# Altium integrated library Linear Technology Power Management PMIC Multifunction.IntLib: 360 symbols (part 7 of 42)
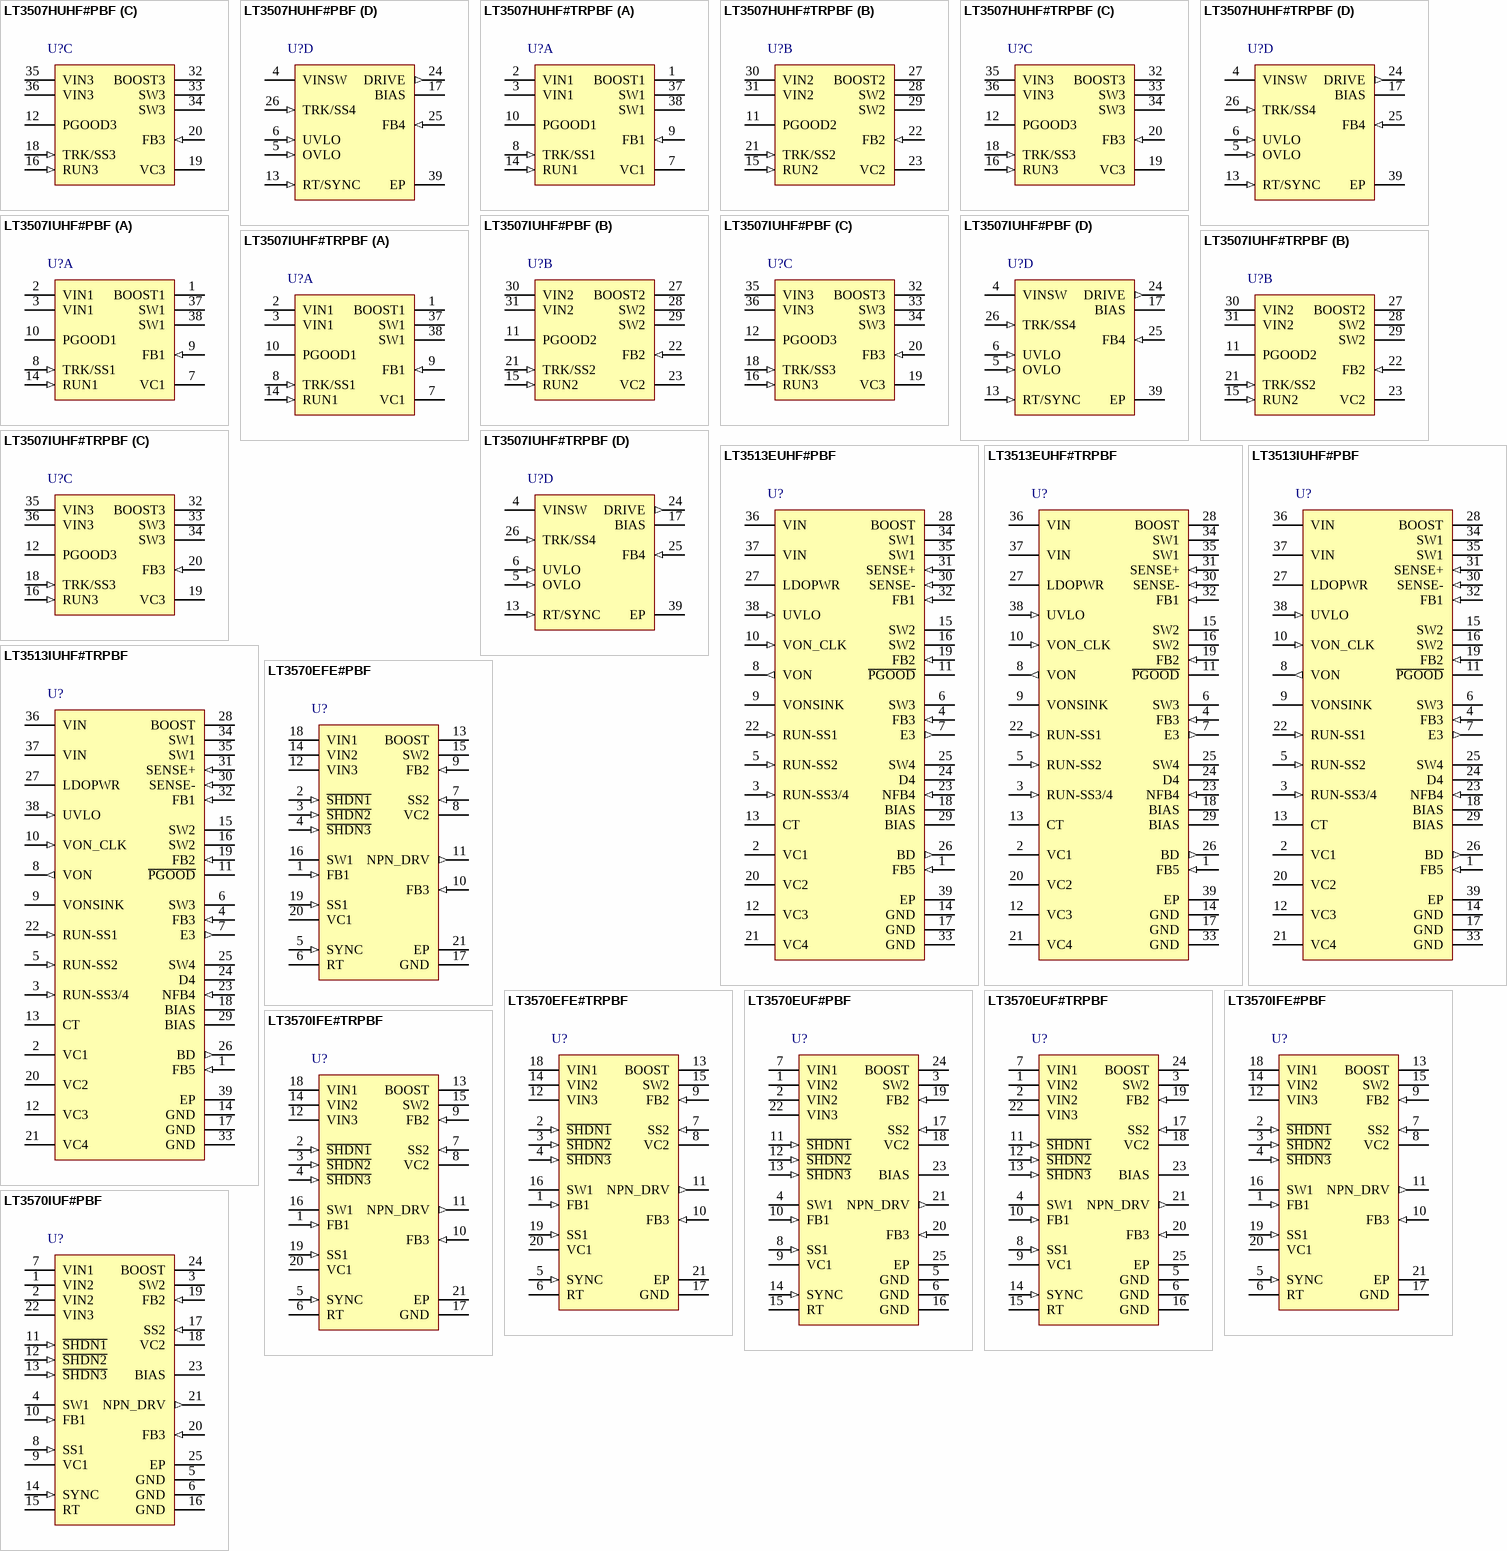
[diagram p24: symbols LT3507HUHF#PBF to LT3570IUF#PBF]

## LT3507IUHF#TRPBF
designator U?
Triple Monolithic Step-Down Regulator with LDO, 4 to 36 V Vin, 38-pin QFN (UHF-38), -40 to 125 degC, Pb-Free, Tape and Reel; Manufacturer: Linear Technology; PartNumber: LT3507IUHF#TRPBF; Number of Outputs: 4; Vin Max(V): 36; DatasheetVersion: Rev. A; PackageVersion: Rev. C, 06/2010; PackageReference: UHF-38; PackageDescription: 38-Pin Plastic QFN, Body 7 x 5 mm, Pitch 0.5 mm; Supplier 1: Digi-Key; Supplier Part Number 1: LT3507IUHF#TRPBF-ND; Supplier 2: Newark; Supplier Part Number 2: 95M8581; Packing: Tape and Reel; RoHS: TRUE; Vin Min(V): 4; Mounting Technology: Surface Mount; Code_JEDEC: MO-220; ComponentLink1Description: Manufacturer URL; ComponentLink1URL: http://www.linear.com/; ComponentLink2Description: Datasheet; ComponentLink2URL: http://cds.linear.com/docs/en/datasheet/3507fa.pdf; ComponentLink3Description: Package Specification; ComponentLink3URL: http://cds.linear.com/docs/en/packaging/QFN_38_05-08-1701.pdf
footprint LT-UHF-38_N (QFN, 38-Leads, Body 7.1x5.1mm, Pitch 0.5mm, Thermal Pad 3.15x5.15mm, IPC Medium Density)
footprint LT-UHF-38_L (QFN, 38-Leads, Body 7.1x5.1mm, Pitch 0.5mm, Thermal Pad 3.15x5.15mm, IPC High Density)
footprint LT-UHF-38_M (QFN, 38-Leads, Body 7.1x5.1mm, Pitch 0.5mm, Thermal Pad 3.15x5.15mm, IPC Low Density)
part A pins: 1 BOOST1 "The BOOST pins are used to provide drive voltages, higher than the input voltage, to the internal bipolar NPN power switches. These pins must be tied through a diode from VOUT, VIN or another supply greater than 2.5V.", 2 VIN1 (power), 3 VIN1 (power), 7 VC1 "The VC pins are the outputs of the internal error amps. The voltages on these pins control the peak switch currents. These pins are normally used to compensate the control loops. Each switching regulator can be shut down by (See Datasheet)", 8 TRK/SS1 (in), 9 FB1 (in), 10 PGOOD1 (hiz) "The PGOOD pins are the open-collector outputs of an internal comparator. PGOOD remains low until the FB pin is within 10% of the final regulation voltage. As well as indicating output regulation, the PGOOD pins can sequence (See Datasheet)", 14 RUN1 (in), 37 SW1 (power) "The SW pins are the outputs of the internal power switches. Connect these pins to the inductors and switching diodes", 38 SW1 (power) "The SW pins are the outputs of the internal power switches. Connect these pins to the inductors and switching diodes"
part B pins: 11 PGOOD2 (hiz) "The PGOOD pins are the open-collector outputs of an internal comparator. PGOOD remains low until the FB pin is within 10% of the final regulation voltage. As well as indicating output regulation, the PGOOD pins can sequence (See Datasheet)", 15 RUN2 (in), 21 TRK/SS2 (in), 22 FB2 (in), 23 VC2 "The VC pins are the outputs of the internal error amps. The voltages on these pins control the peak switch currents. These pins are normally used to compensate the control loops. Each switching regulator can be shut down by (See Datasheet)", 27 BOOST2 "The BOOST pins are used to provide drive voltages, higher than the input voltage, to the internal bipolar NPN power switches. These pins must be tied through a diode from VOUT, VIN or another supply greater than 2.5V.", 28 SW2 (power) "The SW pins are the outputs of the internal power switches. Connect these pins to the inductors and switching diodes", 29 SW2 (power) "The SW pins are the outputs of the internal power switches. Connect these pins to the inductors and switching diodes", 30 VIN2 (power), 31 VIN2 (power)
part C pins: 12 PGOOD3 (hiz) "The PGOOD pins are the open-collector outputs of an internal comparator. PGOOD remains low until the FB pin is within 10% of the final regulation voltage. As well as indicating output regulation, the PGOOD pins can sequence (See Datasheet)", 16 RUN3 (in), 18 TRK/SS3 (in), 19 VC3 "The VC pins are the outputs of the internal error amps. The voltages on these pins control the peak switch currents. These pins are normally used to compensate the control loops. Each switching regulator can be shut down by (See Datasheet)", 20 FB3 (in), 32 BOOST3 "The BOOST pins are used to provide drive voltages, higher than the input voltage, to the internal bipolar NPN power switches. These pins must be tied through a diode from VOUT, VIN or another supply greater than 2.5V.", 33 SW3 (power) "The SW pins are the outputs of the internal power switches. Connect these pins to the inductors and switching diodes", 34 SW3 (power) "The SW pins are the outputs of the internal power switches. Connect these pins to the inductors and switching diodes", 35 VIN3 (power), 36 VIN3 (power)
part D pins: 4 VINSW (power) "The VINSW pin is a switched VIN1 for the user programmable undervoltage and overvoltage detection. It is connected to VIN1 when any of the RUN pins are pulled high, and high impedance when all RUN pins are low or open.", 5 OVLO (in), 6 UVLO (in), 13 RT/SYNC (in), 17 BIAS (power), 24 DRIVE (out) "The DRIVE pin provides the base drive for an external NPN transistor used for the LDO regulator.", 25 FB4 (in) "The FB4 pin is the negative input to the LDO error amplifier. It is regulated to 0.8V through the LDO feedback resistor divider.", 26 TRK/SS4 (in), 39 EP (power) "Ground. The underside exposed pad metal of the package provides both electrical contact to ground and good thermal contact to the printed circuit board. The exposed pad must be soldered to a grounded pad on the circuit board (See Datasheet)"

## LT3513EUHF#PBF
designator U?
2 MHz High Current 5-Output Regulator for TFT-LCD Panels, 4.5 to 30 V Vin, 38-pin QFN (UHF-38), -40 to 125 degC, Pb-Free; Manufacturer: Linear Technology; PartNumber: LT3513EUHF#PBF; Number of Outputs: 5; Vin Max(V): 30; Vin Min(V): 4.5; DatasheetVersion: Rev. C; PackageVersion: Rev. C, 06/2010; PackageReference: UHF-38; PackageDescription: 38-Pin Plastic QFN, Body 7 x 5 mm, Pitch 0.5 mm; Supplier 1: Digi-Key; Supplier Part Number 1: LT3513EUHF#PBF-ND; RoHS: TRUE; Mounting Technology: Surface Mount; Code_JEDEC: MO-220; ComponentLink1Description: Manufacturer URL; ComponentLink1URL: http://www.linear.com/; ComponentLink2Description: Datasheet; ComponentLink2URL: http://cds.linear.com/docs/en/datasheet/3513fc.pdf; ComponentLink3Description: Package Specification; ComponentLink3URL: http://cds.linear.com/docs/en/packaging/QFN_38_05-08-1701.pdf
footprint LT-UHF-38_N (QFN, 38-Leads, Body 7.1x5.1mm, Pitch 0.5mm, Thermal Pad 3.15x5.15mm, IPC Medium Density)
footprint LT-UHF-38_L (QFN, 38-Leads, Body 7.1x5.1mm, Pitch 0.5mm, Thermal Pad 3.15x5.15mm, IPC High Density)
footprint LT-UHF-38_M (QFN, 38-Leads, Body 7.1x5.1mm, Pitch 0.5mm, Thermal Pad 3.15x5.15mm, IPC Low Density)
pins: 1 FB5 (in) "Feedback Pin. Tie the resistor tap to this pin and set the output of the LDO according to VLDO = 0.625 • (1 + R14/R15). Reference designators refer to Figure 1.", 2 VC1 "Control Voltage and Compensation Pin for Internal Error Amplifier. Connect a series RC from this pin to ground to compensate switching regulator 1.", 3 RUN-SS3/4 (in) "Run/Soft-Start Pin. This is the softstart pin for switching regulators 3 and 4. Place a soft-start capacitor here to limit start-up inrush current and output voltage ramp rate. When the BIAS pin reaches 2.25V, a 2uA current (See Datasheet)", 4 FB3 (in) "Feedback Pin. Tie the resistor tap to this pin and set VON according to VON = 1.22V • (1 + R8/R9) - 150mV. Reference designators refer to Figure 1.", 5 RUN-SS2 (in) "Run/Soft-Start Pin. This is the soft-start pin for switching regulator 2. Place a soft-start capacitor here to limit start-up inrush current and output voltage ramp rate. When the BIAS pin reaches 2.25V, a 2uA current source (See Datasheet)", 6 SW3 (power) "Switch Node. The SW3 pin is the collector of the internal NPN bipolar transistor for switching regulator 3. Minimize trace area at this pin to keep EMI down.", 7 E3 (out) "This is switching regulator 3’s output and the emitter of the output disconnect PNP. Tie the output capacitor and resistor divider here.", 8 VON (out) "This is the delayed output for switching regulator 3. VON reaches its programmed voltage after the internal CT timer times out. Protection circuitry ensures VON is disabled if any of the four outputs are more than 10% below (See Datasheet)", 9 VONSINK (hiz) "This is an open-collector output controlled by the VON_CLK pin. When VON_CLK is low, this pin draws no current and when VON_CLK is high, this pin draws current.", 10 VON_CLK (in) "This pin controls the output disconnect device and the open collector of VONSINK. When this pin is low, the VON pin is enabled and the VONSINK pin is a high impedance. When this pin is high, the VON pin is disabled and the (See Datasheet)", 11 ~{PGOOD} (oc) "Power Good Comparator Output. This is the open collector output of the power good comparator and can be used in conjunction with an external P-channel MOSFET to provide output disconnect for AVDD as shown in Figure 2. When (See Datasheet)", 12 VC3 "Control Voltage and Compensation Pin for Internal Error Amplifier. Connect a series RC from this pin to ground to compensate switching regulator 3.", 13 CT "Timing Capacitor Pin. This is the input to the VON timer and programs the time delay from all four feedback pins reaching 1.125V to VON turning on. The CT capacitor value can be set using the equation C = (20uA • tDELAY)/(See Datasheet)", 14 GND (power) "Ground.", 15 SW2 (power) "Switch Node. The SW2 pin is the collector of the internal NPN bipolar transistor for switching regulator 2. Minimize trace area at this pin to keep EMI down.", 16 SW2 (power) "Switch Node. The SW2 pin is the collector of the internal NPN bipolar transistor for switching regulator 2. Minimize trace area at this pin to keep EMI down.", 17 GND (power) "Ground.", 18 BIAS (power) "The BIAS pin is used to improve efficiency when operating at higher input voltages. Connecting this pin to the output of switching regulator 1 forces most of the internal circuitry to draw its operating current from VLOGIC (See Datasheet)", 19 FB2 (in) "Feedback Pin. Tie the resistor divider tap to this pin and set AVDD according to AVDD = 1.22V • (1 + R5/R6). Reference designators refer to Figure 2.", 20 VC2 "Control Voltage and Compensation Pin for Internal Error Amplifier. Connect a series RC from this pin to ground to compensate switching regulator 2.", 21 VC4 "Control Voltage and Compensation Pin for Internal Error Amplifier. Connect a series RC from this pin to ground to compensate switching regulator 4.", 22 RUN-SS1 (in) "Run/Soft-Start Pin. This is the soft-start pin for switching regulator 1. Place a soft-start capacitor here to limit start-up inrush current and output voltage ramp rate. When power is applied to the VIN pin, a 2uA current (See Datasheet)", 23 NFB4 (in) "Negative Feedback Pin. Tie the resistor divider tap to this pin and set VOFF according to VOFF = -1.18 • (1 + R3/R4). Reference designators refer to Figure 2.", 24 D4 "Internal Schottky Diode Pin. This pin is the anode of an internal Schottky diode with the other end connected to ground. This Schottky diode is used in generating the VOFF output.", 25 SW4 (power) "Switch Node. The SW4 pin is the collector of the internal NPN bipolar transistor for switching regulator 4. Minimize trace area at this pin to keep EMI down.", 26 BD (out) "NPN LDO Base Drive. This pin controls the base of the external NPN LDO transistor.", 27 LDOPWR (power) "Input Voltage for LDO Driver. This pin supplies the current for the NPN LDO base. This pin can be connected to VIN. To save power at high VIN voltages, the pin can alternatively be connected to the AVDD supply.", 28 BOOST "The BOOST pin is used to provide a drive voltage higher than VIN to the switch 1 drive circuit. An internal Schottky diode is connected between BIAS and BOOST. A capacitor needs to be connected between BOOST and SW1.", 29 BIAS (power) "The BIAS pin is used to improve efficiency when operating at higher input voltages. Connecting this pin to the output of switching regulator 1 forces most of the internal circuitry to draw its operating current from VLOGIC (See Datasheet)", 30 SENSE- (in) "Negative Current Sense Input. This pin (along with the SENSE+ pin) is used to sense the inductor current for the buck switching regulator.", 31 SENSE+ (in) "Positive Current Sense Input. This pin (along with the SENSE- pin) is used to sense the inductor current for the buck switching regulator.", 32 FB1 (in) "Feedback Pin. Tie the resistor divider tap to this pin and set VLOGIC according to VLOGIC = 1.235V • (1 + R1/R2). Reference designators refer to Figure 2.", 33 GND (power) "Ground.", 34 SW1 "Switch Node. The SW1 pins are the emitter of the internal NPN bipolar power transistor for switching regulator 1. These points must be tied together for proper operation. Connect these pins to the inductor, catch diode and (See Datasheet)", 35 SW1 "Switch Node. The SW1 pins are the emitter of the internal NPN bipolar power transistor for switching regulator 1. These points must be tied together for proper operation. Connect these pins to the inductor, catch diode and (See Datasheet)", 36 VIN (power) "Input Voltage. This pin supplies current to the internal circuitry of the LT3513. This pin must be locally bypassed with a capacitor.", 37 VIN (power) "Input Voltage. This pin supplies current to the internal circuitry of the LT3513. This pin must be locally bypassed with a capacitor.", 38 UVLO (in) "Undervoltage Lockout. A resistor divider connected to VIN is tied to this pin to program the minimum input voltage at which the LT3513 will operate. This pin is compared to the internal 1.25V reference. When UVLO is less (See Datasheet)", 39 EP (power) "Ground. The Exposed Pad of the package provides both electrical contact to ground and good thermal contact to the printed circuit board. The Exposed Pad must be soldered to the circuit board for proper operation."

## LT3513EUHF#TRPBF
designator U?
2 MHz High Current 5-Output Regulator for TFT-LCD Panels, 4.5 to 30 V Vin, 38-pin QFN (UHF-38), -40 to 125 degC, Pb-Free, Tape and Reel; Manufacturer: Linear Technology; PartNumber: LT3513EUHF#TRPBF; Number of Outputs: 5; Vin Max(V): 30; Vin Min(V): 4.5; DatasheetVersion: Rev. C; PackageVersion: Rev. C, 06/2010; PackageReference: UHF-38; PackageDescription: 38-Pin Plastic QFN, Body 7 x 5 mm, Pitch 0.5 mm; Supplier 1: Digi-Key; Supplier Part Number 1: LT3513EUHF#TRPBF-ND; Packing: Tape and Reel; RoHS: TRUE; Mounting Technology: Surface Mount; Code_JEDEC: MO-220; ComponentLink1Description: Manufacturer URL; ComponentLink1URL: http://www.linear.com/; ComponentLink2Description: Datasheet; ComponentLink2URL: http://cds.linear.com/docs/en/datasheet/3513fc.pdf; ComponentLink3Description: Package Specification; ComponentLink3URL: http://cds.linear.com/docs/en/packaging/QFN_38_05-08-1701.pdf
footprint LT-UHF-38_N (QFN, 38-Leads, Body 7.1x5.1mm, Pitch 0.5mm, Thermal Pad 3.15x5.15mm, IPC Medium Density)
footprint LT-UHF-38_L (QFN, 38-Leads, Body 7.1x5.1mm, Pitch 0.5mm, Thermal Pad 3.15x5.15mm, IPC High Density)
footprint LT-UHF-38_M (QFN, 38-Leads, Body 7.1x5.1mm, Pitch 0.5mm, Thermal Pad 3.15x5.15mm, IPC Low Density)
pins: 1 FB5 (in) "Feedback Pin. Tie the resistor tap to this pin and set the output of the LDO according to VLDO = 0.625 • (1 + R14/R15). Reference designators refer to Figure 1.", 2 VC1 "Control Voltage and Compensation Pin for Internal Error Amplifier. Connect a series RC from this pin to ground to compensate switching regulator 1.", 3 RUN-SS3/4 (in) "Run/Soft-Start Pin. This is the softstart pin for switching regulators 3 and 4. Place a soft-start capacitor here to limit start-up inrush current and output voltage ramp rate. When the BIAS pin reaches 2.25V, a 2uA current (See Datasheet)", 4 FB3 (in) "Feedback Pin. Tie the resistor tap to this pin and set VON according to VON = 1.22V • (1 + R8/R9) - 150mV. Reference designators refer to Figure 1.", 5 RUN-SS2 (in) "Run/Soft-Start Pin. This is the soft-start pin for switching regulator 2. Place a soft-start capacitor here to limit start-up inrush current and output voltage ramp rate. When the BIAS pin reaches 2.25V, a 2uA current source (See Datasheet)", 6 SW3 (power) "Switch Node. The SW3 pin is the collector of the internal NPN bipolar transistor for switching regulator 3. Minimize trace area at this pin to keep EMI down.", 7 E3 (out) "This is switching regulator 3’s output and the emitter of the output disconnect PNP. Tie the output capacitor and resistor divider here.", 8 VON (out) "This is the delayed output for switching regulator 3. VON reaches its programmed voltage after the internal CT timer times out. Protection circuitry ensures VON is disabled if any of the four outputs are more than 10% below (See Datasheet)", 9 VONSINK (hiz) "This is an open-collector output controlled by the VON_CLK pin. When VON_CLK is low, this pin draws no current and when VON_CLK is high, this pin draws current.", 10 VON_CLK (in) "This pin controls the output disconnect device and the open collector of VONSINK. When this pin is low, the VON pin is enabled and the VONSINK pin is a high impedance. When this pin is high, the VON pin is disabled and the (See Datasheet)", 11 ~{PGOOD} (oc) "Power Good Comparator Output. This is the open collector output of the power good comparator and can be used in conjunction with an external P-channel MOSFET to provide output disconnect for AVDD as shown in Figure 2. When (See Datasheet)", 12 VC3 "Control Voltage and Compensation Pin for Internal Error Amplifier. Connect a series RC from this pin to ground to compensate switching regulator 3.", 13 CT "Timing Capacitor Pin. This is the input to the VON timer and programs the time delay from all four feedback pins reaching 1.125V to VON turning on. The CT capacitor value can be set using the equation C = (20uA • tDELAY)/(See Datasheet)", 14 GND (power) "Ground.", 15 SW2 (power) "Switch Node. The SW2 pin is the collector of the internal NPN bipolar transistor for switching regulator 2. Minimize trace area at this pin to keep EMI down.", 16 SW2 (power) "Switch Node. The SW2 pin is the collector of the internal NPN bipolar transistor for switching regulator 2. Minimize trace area at this pin to keep EMI down.", 17 GND (power) "Ground.", 18 BIAS (power) "The BIAS pin is used to improve efficiency when operating at higher input voltages. Connecting this pin to the output of switching regulator 1 forces most of the internal circuitry to draw its operating current from VLOGIC (See Datasheet)", 19 FB2 (in) "Feedback Pin. Tie the resistor divider tap to this pin and set AVDD according to AVDD = 1.22V • (1 + R5/R6). Reference designators refer to Figure 2.", 20 VC2 "Control Voltage and Compensation Pin for Internal Error Amplifier. Connect a series RC from this pin to ground to compensate switching regulator 2.", 21 VC4 "Control Voltage and Compensation Pin for Internal Error Amplifier. Connect a series RC from this pin to ground to compensate switching regulator 4.", 22 RUN-SS1 (in) "Run/Soft-Start Pin. This is the soft-start pin for switching regulator 1. Place a soft-start capacitor here to limit start-up inrush current and output voltage ramp rate. When power is applied to the VIN pin, a 2uA current (See Datasheet)", 23 NFB4 (in) "Negative Feedback Pin. Tie the resistor divider tap to this pin and set VOFF according to VOFF = -1.18 • (1 + R3/R4). Reference designators refer to Figure 2.", 24 D4 "Internal Schottky Diode Pin. This pin is the anode of an internal Schottky diode with the other end connected to ground. This Schottky diode is used in generating the VOFF output.", 25 SW4 (power) "Switch Node. The SW4 pin is the collector of the internal NPN bipolar transistor for switching regulator 4. Minimize trace area at this pin to keep EMI down.", 26 BD (out) "NPN LDO Base Drive. This pin controls the base of the external NPN LDO transistor.", 27 LDOPWR (power) "Input Voltage for LDO Driver. This pin supplies the current for the NPN LDO base. This pin can be connected to VIN. To save power at high VIN voltages, the pin can alternatively be connected to the AVDD supply.", 28 BOOST "The BOOST pin is used to provide a drive voltage higher than VIN to the switch 1 drive circuit. An internal Schottky diode is connected between BIAS and BOOST. A capacitor needs to be connected between BOOST and SW1.", 29 BIAS (power) "The BIAS pin is used to improve efficiency when operating at higher input voltages. Connecting this pin to the output of switching regulator 1 forces most of the internal circuitry to draw its operating current from VLOGIC (See Datasheet)", 30 SENSE- (in) "Negative Current Sense Input. This pin (along with the SENSE+ pin) is used to sense the inductor current for the buck switching regulator.", 31 SENSE+ (in) "Positive Current Sense Input. This pin (along with the SENSE- pin) is used to sense the inductor current for the buck switching regulator.", 32 FB1 (in) "Feedback Pin. Tie the resistor divider tap to this pin and set VLOGIC according to VLOGIC = 1.235V • (1 + R1/R2). Reference designators refer to Figure 2.", 33 GND (power) "Ground.", 34 SW1 "Switch Node. The SW1 pins are the emitter of the internal NPN bipolar power transistor for switching regulator 1. These points must be tied together for proper operation. Connect these pins to the inductor, catch diode and (See Datasheet)", 35 SW1 "Switch Node. The SW1 pins are the emitter of the internal NPN bipolar power transistor for switching regulator 1. These points must be tied together for proper operation. Connect these pins to the inductor, catch diode and (See Datasheet)", 36 VIN (power) "Input Voltage. This pin supplies current to the internal circuitry of the LT3513. This pin must be locally bypassed with a capacitor.", 37 VIN (power) "Input Voltage. This pin supplies current to the internal circuitry of the LT3513. This pin must be locally bypassed with a capacitor.", 38 UVLO (in) "Undervoltage Lockout. A resistor divider connected to VIN is tied to this pin to program the minimum input voltage at which the LT3513 will operate. This pin is compared to the internal 1.25V reference. When UVLO is less (See Datasheet)", 39 EP (power) "Ground. The Exposed Pad of the package provides both electrical contact to ground and good thermal contact to the printed circuit board. The Exposed Pad must be soldered to the circuit board for proper operation."

## LT3513IUHF#PBF
designator U?
2 MHz High Current 5-Output Regulator for TFT-LCD Panels, 4.5 to 30 V Vin, 38-pin QFN (UHF-38), -40 to 125 degC, Pb-Free; Manufacturer: Linear Technology; PartNumber: LT3513IUHF#PBF; Number of Outputs: 5; Vin Max(V): 30; Vin Min(V): 4.5; DatasheetVersion: Rev. C; PackageVersion: Rev. C, 06/2010; PackageReference: UHF-38; PackageDescription: 38-Pin Plastic QFN, Body 7 x 5 mm, Pitch 0.5 mm; Supplier 1: Digi-Key; Supplier Part Number 1: LT3513IUHF#PBF-ND; RoHS: TRUE; Mounting Technology: Surface Mount; Code_JEDEC: MO-220; ComponentLink1Description: Manufacturer URL; ComponentLink1URL: http://www.linear.com/; ComponentLink2Description: Datasheet; ComponentLink2URL: http://cds.linear.com/docs/en/datasheet/3513fc.pdf; ComponentLink3Description: Package Specification; ComponentLink3URL: http://cds.linear.com/docs/en/packaging/QFN_38_05-08-1701.pdf
footprint LT-UHF-38_N (QFN, 38-Leads, Body 7.1x5.1mm, Pitch 0.5mm, Thermal Pad 3.15x5.15mm, IPC Medium Density)
footprint LT-UHF-38_L (QFN, 38-Leads, Body 7.1x5.1mm, Pitch 0.5mm, Thermal Pad 3.15x5.15mm, IPC High Density)
footprint LT-UHF-38_M (QFN, 38-Leads, Body 7.1x5.1mm, Pitch 0.5mm, Thermal Pad 3.15x5.15mm, IPC Low Density)
pins: 1 FB5 (in) "Feedback Pin. Tie the resistor tap to this pin and set the output of the LDO according to VLDO = 0.625 • (1 + R14/R15). Reference designators refer to Figure 1.", 2 VC1 "Control Voltage and Compensation Pin for Internal Error Amplifier. Connect a series RC from this pin to ground to compensate switching regulator 1.", 3 RUN-SS3/4 (in) "Run/Soft-Start Pin. This is the softstart pin for switching regulators 3 and 4. Place a soft-start capacitor here to limit start-up inrush current and output voltage ramp rate. When the BIAS pin reaches 2.25V, a 2uA current (See Datasheet)", 4 FB3 (in) "Feedback Pin. Tie the resistor tap to this pin and set VON according to VON = 1.22V • (1 + R8/R9) - 150mV. Reference designators refer to Figure 1.", 5 RUN-SS2 (in) "Run/Soft-Start Pin. This is the soft-start pin for switching regulator 2. Place a soft-start capacitor here to limit start-up inrush current and output voltage ramp rate. When the BIAS pin reaches 2.25V, a 2uA current source (See Datasheet)", 6 SW3 (power) "Switch Node. The SW3 pin is the collector of the internal NPN bipolar transistor for switching regulator 3. Minimize trace area at this pin to keep EMI down.", 7 E3 (out) "This is switching regulator 3’s output and the emitter of the output disconnect PNP. Tie the output capacitor and resistor divider here.", 8 VON (out) "This is the delayed output for switching regulator 3. VON reaches its programmed voltage after the internal CT timer times out. Protection circuitry ensures VON is disabled if any of the four outputs are more than 10% below (See Datasheet)", 9 VONSINK (hiz) "This is an open-collector output controlled by the VON_CLK pin. When VON_CLK is low, this pin draws no current and when VON_CLK is high, this pin draws current.", 10 VON_CLK (in) "This pin controls the output disconnect device and the open collector of VONSINK. When this pin is low, the VON pin is enabled and the VONSINK pin is a high impedance. When this pin is high, the VON pin is disabled and the (See Datasheet)", 11 ~{PGOOD} (oc) "Power Good Comparator Output. This is the open collector output of the power good comparator and can be used in conjunction with an external P-channel MOSFET to provide output disconnect for AVDD as shown in Figure 2. When (See Datasheet)", 12 VC3 "Control Voltage and Compensation Pin for Internal Error Amplifier. Connect a series RC from this pin to ground to compensate switching regulator 3.", 13 CT "Timing Capacitor Pin. This is the input to the VON timer and programs the time delay from all four feedback pins reaching 1.125V to VON turning on. The CT capacitor value can be set using the equation C = (20uA • tDELAY)/(See Datasheet)", 14 GND (power) "Ground.", 15 SW2 (power) "Switch Node. The SW2 pin is the collector of the internal NPN bipolar transistor for switching regulator 2. Minimize trace area at this pin to keep EMI down.", 16 SW2 (power) "Switch Node. The SW2 pin is the collector of the internal NPN bipolar transistor for switching regulator 2. Minimize trace area at this pin to keep EMI down.", 17 GND (power) "Ground.", 18 BIAS (power) "The BIAS pin is used to improve efficiency when operating at higher input voltages. Connecting this pin to the output of switching regulator 1 forces most of the internal circuitry to draw its operating current from VLOGIC (See Datasheet)", 19 FB2 (in) "Feedback Pin. Tie the resistor divider tap to this pin and set AVDD according to AVDD = 1.22V • (1 + R5/R6). Reference designators refer to Figure 2.", 20 VC2 "Control Voltage and Compensation Pin for Internal Error Amplifier. Connect a series RC from this pin to ground to compensate switching regulator 2.", 21 VC4 "Control Voltage and Compensation Pin for Internal Error Amplifier. Connect a series RC from this pin to ground to compensate switching regulator 4.", 22 RUN-SS1 (in) "Run/Soft-Start Pin. This is the soft-start pin for switching regulator 1. Place a soft-start capacitor here to limit start-up inrush current and output voltage ramp rate. When power is applied to the VIN pin, a 2uA current (See Datasheet)", 23 NFB4 (in) "Negative Feedback Pin. Tie the resistor divider tap to this pin and set VOFF according to VOFF = -1.18 • (1 + R3/R4). Reference designators refer to Figure 2.", 24 D4 "Internal Schottky Diode Pin. This pin is the anode of an internal Schottky diode with the other end connected to ground. This Schottky diode is used in generating the VOFF output.", 25 SW4 (power) "Switch Node. The SW4 pin is the collector of the internal NPN bipolar transistor for switching regulator 4. Minimize trace area at this pin to keep EMI down.", 26 BD (out) "NPN LDO Base Drive. This pin controls the base of the external NPN LDO transistor.", 27 LDOPWR (power) "Input Voltage for LDO Driver. This pin supplies the current for the NPN LDO base. This pin can be connected to VIN. To save power at high VIN voltages, the pin can alternatively be connected to the AVDD supply.", 28 BOOST "The BOOST pin is used to provide a drive voltage higher than VIN to the switch 1 drive circuit. An internal Schottky diode is connected between BIAS and BOOST. A capacitor needs to be connected between BOOST and SW1.", 29 BIAS (power) "The BIAS pin is used to improve efficiency when operating at higher input voltages. Connecting this pin to the output of switching regulator 1 forces most of the internal circuitry to draw its operating current from VLOGIC (See Datasheet)", 30 SENSE- (in) "Negative Current Sense Input. This pin (along with the SENSE+ pin) is used to sense the inductor current for the buck switching regulator.", 31 SENSE+ (in) "Positive Current Sense Input. This pin (along with the SENSE- pin) is used to sense the inductor current for the buck switching regulator.", 32 FB1 (in) "Feedback Pin. Tie the resistor divider tap to this pin and set VLOGIC according to VLOGIC = 1.235V • (1 + R1/R2). Reference designators refer to Figure 2.", 33 GND (power) "Ground.", 34 SW1 "Switch Node. The SW1 pins are the emitter of the internal NPN bipolar power transistor for switching regulator 1. These points must be tied together for proper operation. Connect these pins to the inductor, catch diode and (See Datasheet)", 35 SW1 "Switch Node. The SW1 pins are the emitter of the internal NPN bipolar power transistor for switching regulator 1. These points must be tied together for proper operation. Connect these pins to the inductor, catch diode and (See Datasheet)", 36 VIN (power) "Input Voltage. This pin supplies current to the internal circuitry of the LT3513. This pin must be locally bypassed with a capacitor.", 37 VIN (power) "Input Voltage. This pin supplies current to the internal circuitry of the LT3513. This pin must be locally bypassed with a capacitor.", 38 UVLO (in) "Undervoltage Lockout. A resistor divider connected to VIN is tied to this pin to program the minimum input voltage at which the LT3513 will operate. This pin is compared to the internal 1.25V reference. When UVLO is less (See Datasheet)", 39 EP (power) "Ground. The Exposed Pad of the package provides both electrical contact to ground and good thermal contact to the printed circuit board. The Exposed Pad must be soldered to the circuit board for proper operation."

## LT3513IUHF#TRPBF
designator U?
2 MHz High Current 5-Output Regulator for TFT-LCD Panels, 4.5 to 30 V Vin, 38-pin QFN (UHF-38), -40 to 125 degC, Pb-Free, Tape and Reel; Manufacturer: Linear Technology; PartNumber: LT3513IUHF#TRPBF; Number of Outputs: 5; Vin Max(V): 30; Vin Min(V): 4.5; DatasheetVersion: Rev. C; PackageVersion: Rev. C, 06/2010; PackageReference: UHF-38; PackageDescription: 38-Pin Plastic QFN, Body 7 x 5 mm, Pitch 0.5 mm; Supplier 1: Digi-Key; Supplier Part Number 1: LT3513IUHF#TRPBF-ND; Packing: Tape and Reel; RoHS: TRUE; Mounting Technology: Surface Mount; Code_JEDEC: MO-220; ComponentLink1Description: Manufacturer URL; ComponentLink1URL: http://www.linear.com/; ComponentLink2Description: Datasheet; ComponentLink2URL: http://cds.linear.com/docs/en/datasheet/3513fc.pdf; ComponentLink3Description: Package Specification; ComponentLink3URL: http://cds.linear.com/docs/en/packaging/QFN_38_05-08-1701.pdf
footprint LT-UHF-38_N (QFN, 38-Leads, Body 7.1x5.1mm, Pitch 0.5mm, Thermal Pad 3.15x5.15mm, IPC Medium Density)
footprint LT-UHF-38_L (QFN, 38-Leads, Body 7.1x5.1mm, Pitch 0.5mm, Thermal Pad 3.15x5.15mm, IPC High Density)
footprint LT-UHF-38_M (QFN, 38-Leads, Body 7.1x5.1mm, Pitch 0.5mm, Thermal Pad 3.15x5.15mm, IPC Low Density)
pins: 1 FB5 (in) "Feedback Pin. Tie the resistor tap to this pin and set the output of the LDO according to VLDO = 0.625 • (1 + R14/R15). Reference designators refer to Figure 1.", 2 VC1 "Control Voltage and Compensation Pin for Internal Error Amplifier. Connect a series RC from this pin to ground to compensate switching regulator 1.", 3 RUN-SS3/4 (in) "Run/Soft-Start Pin. This is the softstart pin for switching regulators 3 and 4. Place a soft-start capacitor here to limit start-up inrush current and output voltage ramp rate. When the BIAS pin reaches 2.25V, a 2uA current (See Datasheet)", 4 FB3 (in) "Feedback Pin. Tie the resistor tap to this pin and set VON according to VON = 1.22V • (1 + R8/R9) - 150mV. Reference designators refer to Figure 1.", 5 RUN-SS2 (in) "Run/Soft-Start Pin. This is the soft-start pin for switching regulator 2. Place a soft-start capacitor here to limit start-up inrush current and output voltage ramp rate. When the BIAS pin reaches 2.25V, a 2uA current source (See Datasheet)", 6 SW3 (power) "Switch Node. The SW3 pin is the collector of the internal NPN bipolar transistor for switching regulator 3. Minimize trace area at this pin to keep EMI down.", 7 E3 (out) "This is switching regulator 3’s output and the emitter of the output disconnect PNP. Tie the output capacitor and resistor divider here.", 8 VON (out) "This is the delayed output for switching regulator 3. VON reaches its programmed voltage after the internal CT timer times out. Protection circuitry ensures VON is disabled if any of the four outputs are more than 10% below (See Datasheet)", 9 VONSINK (hiz) "This is an open-collector output controlled by the VON_CLK pin. When VON_CLK is low, this pin draws no current and when VON_CLK is high, this pin draws current.", 10 VON_CLK (in) "This pin controls the output disconnect device and the open collector of VONSINK. When this pin is low, the VON pin is enabled and the VONSINK pin is a high impedance. When this pin is high, the VON pin is disabled and the (See Datasheet)", 11 ~{PGOOD} (oc) "Power Good Comparator Output. This is the open collector output of the power good comparator and can be used in conjunction with an external P-channel MOSFET to provide output disconnect for AVDD as shown in Figure 2. When (See Datasheet)", 12 VC3 "Control Voltage and Compensation Pin for Internal Error Amplifier. Connect a series RC from this pin to ground to compensate switching regulator 3.", 13 CT "Timing Capacitor Pin. This is the input to the VON timer and programs the time delay from all four feedback pins reaching 1.125V to VON turning on. The CT capacitor value can be set using the equation C = (20uA • tDELAY)/(See Datasheet)", 14 GND (power) "Ground.", 15 SW2 (power) "Switch Node. The SW2 pin is the collector of the internal NPN bipolar transistor for switching regulator 2. Minimize trace area at this pin to keep EMI down.", 16 SW2 (power) "Switch Node. The SW2 pin is the collector of the internal NPN bipolar transistor for switching regulator 2. Minimize trace area at this pin to keep EMI down.", 17 GND (power) "Ground.", 18 BIAS (power) "The BIAS pin is used to improve efficiency when operating at higher input voltages. Connecting this pin to the output of switching regulator 1 forces most of the internal circuitry to draw its operating current from VLOGIC (See Datasheet)", 19 FB2 (in) "Feedback Pin. Tie the resistor divider tap to this pin and set AVDD according to AVDD = 1.22V • (1 + R5/R6). Reference designators refer to Figure 2.", 20 VC2 "Control Voltage and Compensation Pin for Internal Error Amplifier. Connect a series RC from this pin to ground to compensate switching regulator 2.", 21 VC4 "Control Voltage and Compensation Pin for Internal Error Amplifier. Connect a series RC from this pin to ground to compensate switching regulator 4.", 22 RUN-SS1 (in) "Run/Soft-Start Pin. This is the soft-start pin for switching regulator 1. Place a soft-start capacitor here to limit start-up inrush current and output voltage ramp rate. When power is applied to the VIN pin, a 2uA current (See Datasheet)", 23 NFB4 (in) "Negative Feedback Pin. Tie the resistor divider tap to this pin and set VOFF according to VOFF = -1.18 • (1 + R3/R4). Reference designators refer to Figure 2.", 24 D4 "Internal Schottky Diode Pin. This pin is the anode of an internal Schottky diode with the other end connected to ground. This Schottky diode is used in generating the VOFF output.", 25 SW4 (power) "Switch Node. The SW4 pin is the collector of the internal NPN bipolar transistor for switching regulator 4. Minimize trace area at this pin to keep EMI down.", 26 BD (out) "NPN LDO Base Drive. This pin controls the base of the external NPN LDO transistor.", 27 LDOPWR (power) "Input Voltage for LDO Driver. This pin supplies the current for the NPN LDO base. This pin can be connected to VIN. To save power at high VIN voltages, the pin can alternatively be connected to the AVDD supply.", 28 BOOST "The BOOST pin is used to provide a drive voltage higher than VIN to the switch 1 drive circuit. An internal Schottky diode is connected between BIAS and BOOST. A capacitor needs to be connected between BOOST and SW1.", 29 BIAS (power) "The BIAS pin is used to improve efficiency when operating at higher input voltages. Connecting this pin to the output of switching regulator 1 forces most of the internal circuitry to draw its operating current from VLOGIC (See Datasheet)", 30 SENSE- (in) "Negative Current Sense Input. This pin (along with the SENSE+ pin) is used to sense the inductor current for the buck switching regulator.", 31 SENSE+ (in) "Positive Current Sense Input. This pin (along with the SENSE- pin) is used to sense the inductor current for the buck switching regulator.", 32 FB1 (in) "Feedback Pin. Tie the resistor divider tap to this pin and set VLOGIC according to VLOGIC = 1.235V • (1 + R1/R2). Reference designators refer to Figure 2.", 33 GND (power) "Ground.", 34 SW1 "Switch Node. The SW1 pins are the emitter of the internal NPN bipolar power transistor for switching regulator 1. These points must be tied together for proper operation. Connect these pins to the inductor, catch diode and (See Datasheet)", 35 SW1 "Switch Node. The SW1 pins are the emitter of the internal NPN bipolar power transistor for switching regulator 1. These points must be tied together for proper operation. Connect these pins to the inductor, catch diode and (See Datasheet)", 36 VIN (power) "Input Voltage. This pin supplies current to the internal circuitry of the LT3513. This pin must be locally bypassed with a capacitor.", 37 VIN (power) "Input Voltage. This pin supplies current to the internal circuitry of the LT3513. This pin must be locally bypassed with a capacitor.", 38 UVLO (in) "Undervoltage Lockout. A resistor divider connected to VIN is tied to this pin to program the minimum input voltage at which the LT3513 will operate. This pin is compared to the internal 1.25V reference. When UVLO is less (See Datasheet)", 39 EP (power) "Ground. The Exposed Pad of the package provides both electrical contact to ground and good thermal contact to the printed circuit board. The Exposed Pad must be soldered to the circuit board for proper operation."

## LT3570EFE#PBF
designator U?
1.5 A Buck Converter, 1.5 A Boost Converter and LDO Controller, 2.5 to 36 V Vin, 20-pin SOP (FE-20-EPV-CB), -40 to 125 degC, Pb-Free; Manufacturer: Linear Technology; PartNumber: LT3570EFE#PBF; Number of Outputs: 2; Vin Max(V): 36; Vin Min(V): 2.5; DatasheetVersion: Rev. B; PackageVersion: Rev. I, 05/2011; PackageReference: FE-20; PackageDescription: 20-Pin Plastic TSSOP, Body 6.5 x 4.4 mm, Pitch 0.65 mm; Supplier 1: Digi-Key; Supplier Part Number 1: LT3570EFE#PBF-ND; Supplier 2: Farnell; Supplier Part Number 2: 1673519; Supplier 3: Newark; Supplier Part Number 3: 12P8629; RoHS: TRUE; Mounting Technology: Surface Mount; ComponentLink1Description: Manufacturer URL; ComponentLink1URL: http://www.linear.com/; ComponentLink2Description: Datasheet; ComponentLink2URL: http://cds.linear.com/docs/en/datasheet/3570fb.pdf; ComponentLink3Description: Package Specification; ComponentLink3URL: http://cds.linear.com/docs/en/packaging/05081663__J_FE20(CB).pdf
footprint LT-FE-20-EPV-CB_N (SOP, 20-Leads, Body 6.6x4.5mm, Pitch 0.65mm, Thermal Pad 3.86x2.74mm, IPC Medium Density)
footprint LT-FE-20-EPV-CB_L (SOP, 20-Leads, Body 6.6x4.5mm, Pitch 0.65mm, Thermal Pad 3.86x2.74mm, IPC High Density)
footprint LT-FE-20-EPV-CB_M (SOP, 20-Leads, Body 6.6x4.5mm, Pitch 0.65mm, Thermal Pad 3.86x2.74mm, IPC Low Density)
pins: 1 FB1 (in) "Feedback Pin. The LT3570 regulates this pin to 788mV. Connect the feedback resistors to this pin to set the output voltage for the boost switching regulator.", 2 ~{SHDN1} (in) "Shutdown Pin. Tie to 1.4V or more to enable the boost switcher. Tie all S\H\D\N\ pins to 0.3V or less to shutdown the part.", 3 ~{SHDN2} (in) "Shutdown Pin. Tie to 1.4V or more to enable the buck switcher. Tie all S\H\D\N\ pins to 0.3V or less to shutdown the part.", 4 ~{SHDN3} (in) "Shutdown Pin. Tie to 1.5V or more to enable the NPN LDO. Tie all S\H\D\N\ pins to 0.3V or less to shutdown the part.", 5 SYNC (in) "Synchronization Pin. The SYNC pin is used to synchronize the internal oscillator to an external signal. The synchronizing range is equal to the initial operating frequency set by the RT pin up to 1.3 times the initial (See Datasheet)", 6 RT "Frequency Set Pin. Place a resistor to GND to set the internal frequency. The range of oscillation is 500kHz to 2MHz.", 7 SS2 (in) "Soft-Start Pin. Place a soft-start capacitor here. Upon start-up, a current charges the capacitor to 2V. This pin ramps the reference voltage of the buck switcher.", 8 VC2 "Control Voltage and Compensation Pin for the Internal Error Amplifier. Connect a series RC from this pin to ground to compensate the switching regulator loop for the buck regulator.", 9 FB2 (in) "Feedback Pin. The LT3570 regulates this pin to 788mV. Connect the feedback resistors to this pin to set the output voltage for the buck switching regulator.", 10 FB3 (in) "Feedback Pin. The LT3570 regulates this pin to 788mV. Connect the feedback resistors to this pin to set the output voltage for the LDO controller.", 11 NPN_DRV (out) "Base Drive for the External NPN. This pin provides a bias current to drive the base of the NPN. This base current is driven from the IN3 supply voltage.", 12 VIN3 (power) "Input Voltage for the NPN LDO. This pin supplies current to drive the base of the NPN. This pin must be locally bypassed with a capacitor.", 13 BOOST "Bias for the Base Drive of the NPN Switch for the Buck Regulator. This pin provides a bias voltage higher than VIN2. The voltage on this pin is charged up through an external Schottky diode.", 14 VIN2 (power) "Input Voltage for the Buck Regulator. This pin also supplies the current to the internal circuitry of the LT3570. This pin must be locally bypassed with a capacitor.", 15 SW2 (power) "Switch Node. This pin connects to the emitter of an internal NPN power switch. Connect a diode, inductor and boost capacitor to this pin to form the buck regulator.", 16 SW1 (power) "Switch Node. This pin connects to the collector of an internal NPN power switch. Connect a diode and inductor to this pin to form the boost regulator.", 17 GND (power) "Ground. The Exposed Pad of the package provides both electrical contact to ground and good thermal contact to the printed circuit board. The Exposed Pad must be soldered to the circuit board for proper operation.", 18 VIN1 (power) "Input Voltage for the Boost Regulator. This pin supplies current to drive the boost NPN transistor of the LT3570. This pin must be locally bypassed with a capacitor.", 19 SS1 (in) "Soft-Start Pin. Place a soft-start capacitor here. Upon start-up, a current charges the capacitor to 2V. This pin ramps the reference voltage of the boost switcher.", 20 VC1 "Control Voltage and Compensation Pin for the Internal Error Amplifier. Connect a series RC from this pin to ground to compensate the switching regulator loop for the boost regulator.", 21 EP (power) "Ground. The Exposed Pad of the package provides both electrical contact to ground and good thermal contact to the printed circuit board. The Exposed Pad must be soldered to the circuit board for proper operation."

## LT3570EFE#TRPBF
designator U?
1.5 A Buck Converter, 1.5 A Boost Converter and LDO Controller, 2.5 to 36 V Vin, 20-pin SOP (FE-20-EPV-CB), -40 to 125 degC, Pb-Free, Tape and Reel; Manufacturer: Linear Technology; PartNumber: LT3570EFE#TRPBF; Number of Outputs: 2; Vin Max(V): 36; Vin Min(V): 2.5; DatasheetVersion: Rev. B; PackageVersion: Rev. I, 05/2011; PackageReference: FE-20; PackageDescription: 20-Pin Plastic TSSOP, Body 6.5 x 4.4 mm, Pitch 0.65 mm; Supplier 1: Digi-Key; Supplier Part Number 1: LT3570EFE#TRPBF-ND; Supplier 2: Newark; Supplier Part Number 2: 19P9368; Packing: Tape and Reel; RoHS: TRUE; Mounting Technology: Surface Mount; ComponentLink1Description: Manufacturer URL; ComponentLink1URL: http://www.linear.com/; ComponentLink2Description: Datasheet; ComponentLink2URL: http://cds.linear.com/docs/en/datasheet/3570fb.pdf; ComponentLink3Description: Package Specification; ComponentLink3URL: http://cds.linear.com/docs/en/packaging/05081663__J_FE20(CB).pdf
footprint LT-FE-20-EPV-CB_N (SOP, 20-Leads, Body 6.6x4.5mm, Pitch 0.65mm, Thermal Pad 3.86x2.74mm, IPC Medium Density)
footprint LT-FE-20-EPV-CB_L (SOP, 20-Leads, Body 6.6x4.5mm, Pitch 0.65mm, Thermal Pad 3.86x2.74mm, IPC High Density)
footprint LT-FE-20-EPV-CB_M (SOP, 20-Leads, Body 6.6x4.5mm, Pitch 0.65mm, Thermal Pad 3.86x2.74mm, IPC Low Density)
pins: 1 FB1 (in) "Feedback Pin. The LT3570 regulates this pin to 788mV. Connect the feedback resistors to this pin to set the output voltage for the boost switching regulator.", 2 ~{SHDN1} (in) "Shutdown Pin. Tie to 1.4V or more to enable the boost switcher. Tie all S\H\D\N\ pins to 0.3V or less to shutdown the part.", 3 ~{SHDN2} (in) "Shutdown Pin. Tie to 1.4V or more to enable the buck switcher. Tie all S\H\D\N\ pins to 0.3V or less to shutdown the part.", 4 ~{SHDN3} (in) "Shutdown Pin. Tie to 1.5V or more to enable the NPN LDO. Tie all S\H\D\N\ pins to 0.3V or less to shutdown the part.", 5 SYNC (in) "Synchronization Pin. The SYNC pin is used to synchronize the internal oscillator to an external signal. The synchronizing range is equal to the initial operating frequency set by the RT pin up to 1.3 times the initial (See Datasheet)", 6 RT "Frequency Set Pin. Place a resistor to GND to set the internal frequency. The range of oscillation is 500kHz to 2MHz.", 7 SS2 (in) "Soft-Start Pin. Place a soft-start capacitor here. Upon start-up, a current charges the capacitor to 2V. This pin ramps the reference voltage of the buck switcher.", 8 VC2 "Control Voltage and Compensation Pin for the Internal Error Amplifier. Connect a series RC from this pin to ground to compensate the switching regulator loop for the buck regulator.", 9 FB2 (in) "Feedback Pin. The LT3570 regulates this pin to 788mV. Connect the feedback resistors to this pin to set the output voltage for the buck switching regulator.", 10 FB3 (in) "Feedback Pin. The LT3570 regulates this pin to 788mV. Connect the feedback resistors to this pin to set the output voltage for the LDO controller.", 11 NPN_DRV (out) "Base Drive for the External NPN. This pin provides a bias current to drive the base of the NPN. This base current is driven from the IN3 supply voltage.", 12 VIN3 (power) "Input Voltage for the NPN LDO. This pin supplies current to drive the base of the NPN. This pin must be locally bypassed with a capacitor.", 13 BOOST "Bias for the Base Drive of the NPN Switch for the Buck Regulator. This pin provides a bias voltage higher than VIN2. The voltage on this pin is charged up through an external Schottky diode.", 14 VIN2 (power) "Input Voltage for the Buck Regulator. This pin also supplies the current to the internal circuitry of the LT3570. This pin must be locally bypassed with a capacitor.", 15 SW2 (power) "Switch Node. This pin connects to the emitter of an internal NPN power switch. Connect a diode, inductor and boost capacitor to this pin to form the buck regulator.", 16 SW1 (power) "Switch Node. This pin connects to the collector of an internal NPN power switch. Connect a diode and inductor to this pin to form the boost regulator.", 17 GND (power) "Ground. The Exposed Pad of the package provides both electrical contact to ground and good thermal contact to the printed circuit board. The Exposed Pad must be soldered to the circuit board for proper operation.", 18 VIN1 (power) "Input Voltage for the Boost Regulator. This pin supplies current to drive the boost NPN transistor of the LT3570. This pin must be locally bypassed with a capacitor.", 19 SS1 (in) "Soft-Start Pin. Place a soft-start capacitor here. Upon start-up, a current charges the capacitor to 2V. This pin ramps the reference voltage of the boost switcher.", 20 VC1 "Control Voltage and Compensation Pin for the Internal Error Amplifier. Connect a series RC from this pin to ground to compensate the switching regulator loop for the boost regulator.", 21 EP (power) "Ground. The Exposed Pad of the package provides both electrical contact to ground and good thermal contact to the printed circuit board. The Exposed Pad must be soldered to the circuit board for proper operation."